# Altium schematic symbol library Breakout.SchLib: 9 symbols
Pins are listed as number, name and electrical type; pins without a type are passive.

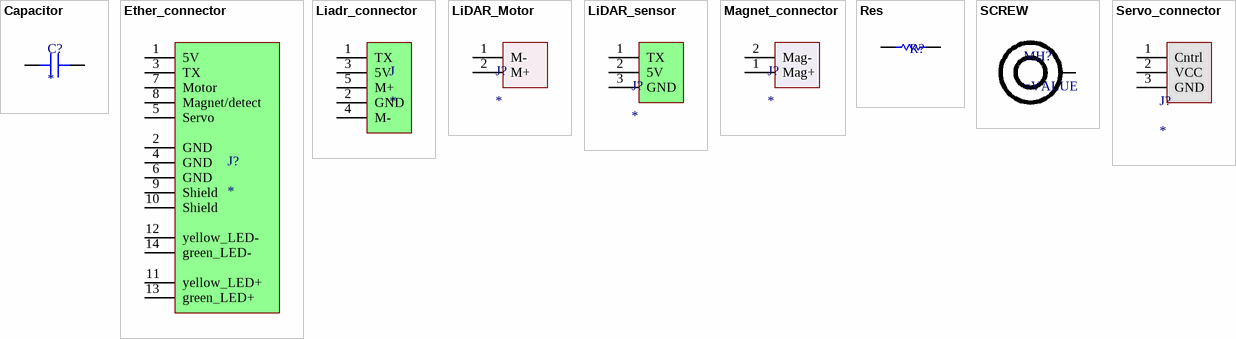
[diagram p0: symbols Capacitor to Servo_connector]

## Capacitor
designator C?
SMT Capacitor; Value: *
footprint CAP 0603 (Chip Resistor, 2-Leads, Body 1.60x0.80mm)
pins: 1, 2

## Ether_connector
designator J?
footprint MTJ88ARX1FSMLG
pins: 1 5V, 2 GND, 3 TX, 4 GND, 5 Servo, 6 GND, 7 Motor, 8 Magnet/detect, 9 Shield, 10 Shield, 11 yellow_LED+, 12 yellow_LED-, 13 green_LED+, 14 green_LED-

## Liadr_connector
designator J
pins: 1 TX, 2 GND, 3 5V, 4 M-, 5 M+

## LiDAR_Motor
designator J?
footprint JST XH B2B-XH-A
pins: 1 M-, 2 M+

## LiDAR_sensor
designator J?
footprint JST XH B3B-XH-A
pins: 1 TX, 2 5V, 3 GND

## Magnet_connector
designator J?
footprint JST XH B2B-XH-A
pins: 1 Mag+, 2 Mag-

## Res
designator R?
Resistor; Ordered by: Subcon; Published: 8-Jun-2000; Revision: July-2002: Re-released for DXP Platform.; Publisher: Altium Limited
footprint RES 0603 (Chip Resistor, 2-Leads, Body 1.60x0.80mm)
pins: 1, 2
2 alternate drawings of the same symbol

## SCREW
designator MH?
footprint SCREW_M3.0 (M3 Screw Close FIt)
pins: 1

## Servo_connector
designator J?
footprint JST XH B3B-XH-A
pins: 1 Cntrl, 2 VCC, 3 GND